# Altium footprint library EVM54304-MN-01A.PcbLib: 19 footprints (part 1 of 2)
Each footprint in its own frame and in the unit in brackets; x right, y up, seen from the top. Pads: shape width x height; smd on the part's side, far side on the other; paste and mask are expansions set on the pad; w line width, h text height; cw(c..) or ccw(c..) is an arc to the next point about the centre after c.
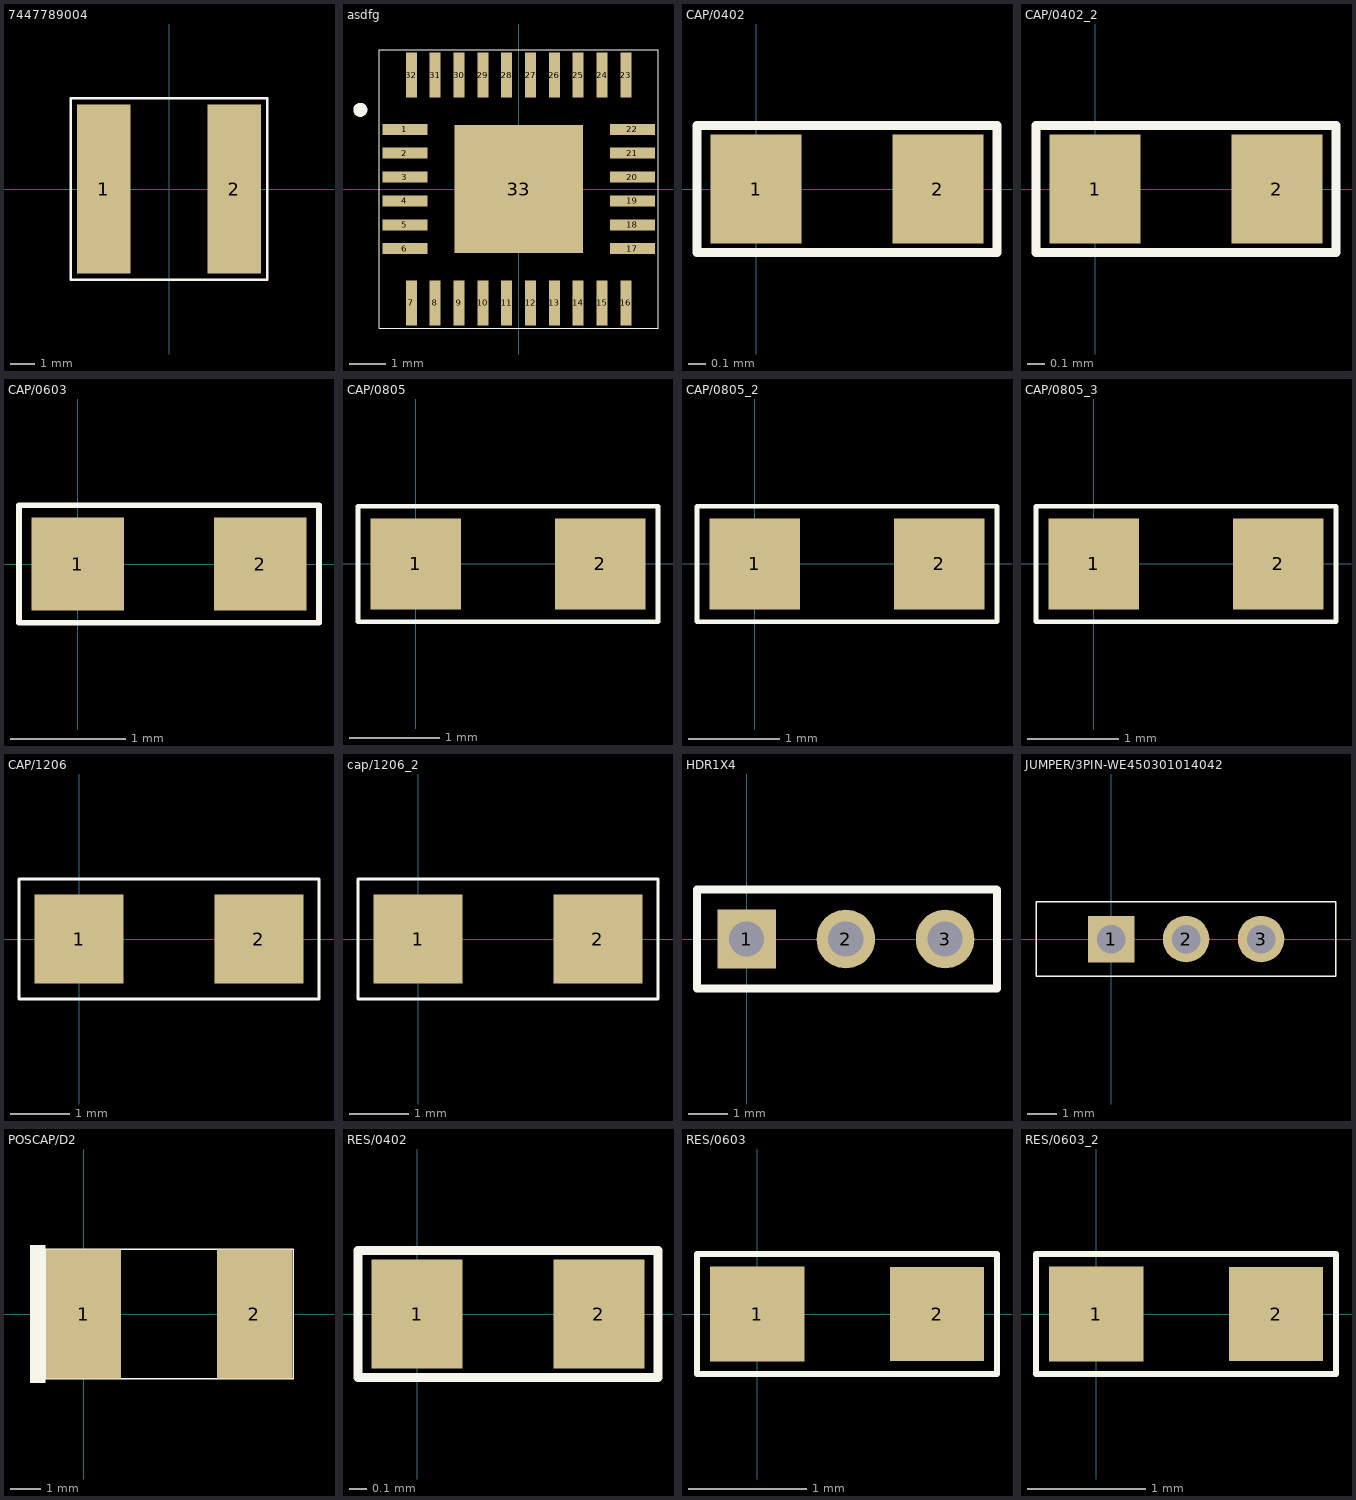
[diagram p0: the footprints below, top view; thin cyan lines are the x and y axes]

## 7447789004 [mm]
height 0.7
pads (2):
  rect 2.2x7 smd: 1(-2.7,0) 2(2.7,0)
Top Overlay:
  lines w0.1: -4.064,-3.75 4.064,-3.75 4.064,3.75 -4.064,3.75 -4.064,-3.75

## asdfg [mm] "MPM54304"
height 1.27
pads (33):
  rect 1.225x0.3 smd: 1(-3.105,1.625) 2(-3.105,0.975) 3(-3.105,0.325) 4(-3.105,-0.325) 5(-3.105,-0.975) 6(-3.105,-1.625) 17(3.099,-1.625) 18(3.099,-0.975) 19(3.099,-0.325) 20(3.099,0.325) 21(3.099,0.975) 22(3.099,1.625)
  rect 0.3x1.225 smd: 7(-2.925,-3.106) 8(-2.275,-3.106) 9(-1.625,-3.106) 10(-0.975,-3.106) 11(-0.325,-3.106) 12(0.325,-3.106) 13(0.975,-3.106) 14(1.625,-3.106) 15(2.275,-3.106) 16(2.925,-3.106) 23(2.925,3.104) 24(2.275,3.104) 25(1.625,3.104) 26(0.975,3.104) 27(0.325,3.104) 28(-0.325,3.104) 29(-0.975,3.104) 30(-1.625,3.104) 31(-2.275,3.104) 32(-2.925,3.104)
  rect 3.5x3.5 smd: 33(0,0)
Top Overlay:
  circle w0.254: c-4.318,2.159 r0.064
  lines w0.026: -3.8,-3.8 -3.8,3.8 3.8,3.8 3.8,-3.8 -3.8,-3.8

## CAP/0402 [mil]
pads (2):
  rect 20x24 smd paste+0 mask+0: 1(0,0) 2(40,0)
Top Overlay:
  lines w1.97: -13,-14 53,-14 53,14 -13,14 -13,-14

## CAP/0402_2 [mil]
pads (2):
  rect 20x24 smd paste+0 mask+0: 1(0,0) 2(40,0)
Top Overlay:
  lines w1.97: -13,-14 -13,14 53,14 53,-14 -13,-14

## CAP/0603 [mm]
height 0.7
pads (2):
  rect 0.8x0.8 smd paste+0 mask+0: 1(0,0) 2(1.575,0)
Top Overlay:
  lines w0.05: -0.508,-0.508 -0.508,0.508 2.083,0.508 2.083,-0.508 -0.508,-0.508

## CAP/0805 [mm]
height 1.5
pads (2):
  rect 1x1 smd paste-25.4: 1(0,0) 2(2.032,0)
Top Overlay:
  lines w0.05: -0.635,-0.635 -0.635,0.635 2.667,0.635 2.667,-0.635 -0.635,-0.635
Top Paste:
  region: 1.782,0.505 1.684,0.485 1.602,0.43 1.547,0.348 1.527,0.25 1.527,-0.25 1.547,-0.348 1.602,-0.43 1.684,-0.485 1.782,-0.505 2.282,-0.505 2.38,-0.485 2.462,-0.43 2.517,-0.348 2.537,-0.25 2.537,0.25 2.517,0.348 2.462,0.43 2.38,0.485 2.282,0.505
  region: -0.25,0.505 -0.348,0.485 -0.43,0.43 -0.485,0.348 -0.505,0.25 -0.505,-0.25 -0.485,-0.348 -0.43,-0.43 -0.348,-0.485 -0.25,-0.505 0.25,-0.505 0.348,-0.485 0.43,-0.43 0.485,-0.348 0.505,-0.25 0.505,0.25 0.485,0.348 0.43,0.43 0.348,0.485 0.25,0.505

## CAP/0805_2 [mm]
pads (2):
  rect 1x1 smd paste+0 mask+0: 1(0,0) 2(2.032,0)
Top Overlay:
  lines w0.05: -0.635,-0.635 -0.635,0.635 2.667,0.635 2.667,-0.635 -0.635,-0.635

## CAP/0805_3 [mm]
pads (2):
  rect 1x1 smd paste+0 mask+0: 1(0,0) 2(2.032,0)
Top Overlay:
  lines w0.05: -0.635,-0.635 -0.635,0.635 2.667,0.635 2.667,-0.635 -0.635,-0.635

## CAP/1206 [mm]
height 0.7
pads (2):
  rect 1.5x1.5 smd paste+0 mask+0.102: 1(0,0) 2(3.048,0)
Top Overlay:
  lines w0.051: -1.016,-1.016 -1.016,1.016 4.064,1.016 4.064,-1.016 -1.016,-1.016

## cap/1206_2 [mm]
pads (2):
  rect 1.5x1.5 smd paste+0 mask+0.102: 1(0,0) 2(3.048,0)
Top Overlay:
  lines w0.051: -1.016,-1.016 -1.016,1.016 4.064,1.016 4.064,-1.016 -1.016,-1.016

## HDR1X4 [mm] "Connector; Header; 4 Position"
height 0.7
pads (3):
  rect 1.5x1.5 hole 0.9: 1(0,0)
  round 1.5 hole 0.9: 2(2.54,0) 3(5.08,0)
Top Overlay:
  lines w0.2: -1.27,-1.27 -1.27,1.27 6.4,1.27 6.41,1.26 6.41,-1.265 6.405,-1.27 -1.27,-1.27

## JUMPER/3PIN-WE450301014042 [mil]
height 50
pads (3):
  rect 62x62 hole 38: 1(0,0)
  round 62 hole 38: 2(100,0) 3(200,0)
Top Overlay:
  lines w2: -100,-50 300,-50 300,50 -100,50 -100,-50

## POSCAP/D2 [mm]
height 2.032
pads (2):
  rect 2.5x4.3 smd paste-25.4: 1(0,0) 2(5.699,0)
Top Overlay:
  region: -1.27,2.286 -1.778,2.286 -1.778,-2.286 -1.27,-2.286
  lines w0.051: -1.27,-2.159 6.985,-2.159 6.985,2.159 -1.27,2.159 -1.27,-2.159
Top Paste:
  region: 4.487,-1.5 4.534,-1.734 4.666,-1.933 4.865,-2.065 5.099,-2.112 6.299,-2.112 6.533,-2.065 6.732,-1.933 6.864,-1.734 6.911,-1.5 6.911,1.5 6.864,1.734 6.732,1.933 6.533,2.065 6.299,2.112 5.099,2.112 4.865,2.065 4.666,1.933 4.534,1.734 4.487,1.5
  region: -1.212,-1.5 -1.165,-1.734 -1.033,-1.933 -0.834,-2.065 -0.6,-2.112 0.6,-2.112 0.834,-2.065 1.033,-1.933 1.165,-1.734 1.212,-1.5 1.212,1.5 1.165,1.734 1.033,1.933 0.834,2.065 0.6,2.112 -0.6,2.112 -0.834,2.065 -1.033,1.933 -1.165,1.734 -1.212,1.5

## RES/0402 [mil]
height 20
pads (2):
  rect 20x24 smd paste-2 mask+2: 1(0,0) 2(40,0)
Top Overlay:
  lines w1.97: -13,-14 -13,14 53,14 53,-14 -13,-14
3D body: height 22, standoff 2, extent 0,-10 40,10

## RES/0603 [mil]
height 50
pads (2):
  rect 31.5x31.5 smd paste-1000: 1(0,0) 2(60,0)
Top Overlay:
  lines w1.97: -20,-20 -20,20 80,20 80,-20 -20,-20

## RES/0603_2 [mil]
pads (2):
  rect 31.5x31.5 smd paste-1000: 1(0,0) 2(60,0)
Top Overlay:
  lines w1.97: -20,-20 80,-20 80,20 -20,20 -20,-20